# Altium schematic symbol library RES0805_TEMPLATE.SchLib: 1 symbol
Pins are listed as number, name and electrical type; pins without a type are passive.

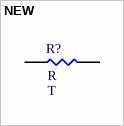
[diagram p0: symbol NEW]

## NEW
designator R?  Resistance: R  Tolerance: T  (hidden comment: NEW)
[DESC]; Footprint: RES0805; Package: 0805; ComponentLink1Description: Datasheet
footprint RES0805 (Generic 0805 PCB Footprint)
pins: 1, 2